# Altium schematic symbol library BLM15AX102SZ1D.SchLib: 1 symbol
Pins are listed as number, name and electrical type; pins without a type are passive.

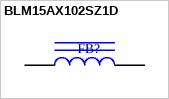
[diagram p0: symbol BLM15AX102SZ1D]

## BLM15AX102SZ1D
designator FB?, comment 1K  (value not drawn)
Ferrite Beads 0402 1000ohms 350mA Auto Infotainment; Supplier 1: Mouser; Supplier Part Number 1: 81-BLM15AX102SZ1D; Value: 1k
footprint BLM15AX102SZ1D (Ferrite Beads 0402 1000ohms 350mA Auto Infotainment)
pins: 1, 2